# Altium integrated library VECTOR Di-gi SMTs.IntLib: 45 symbols
Pins are listed as number, name and electrical type; pins without a type are passive.

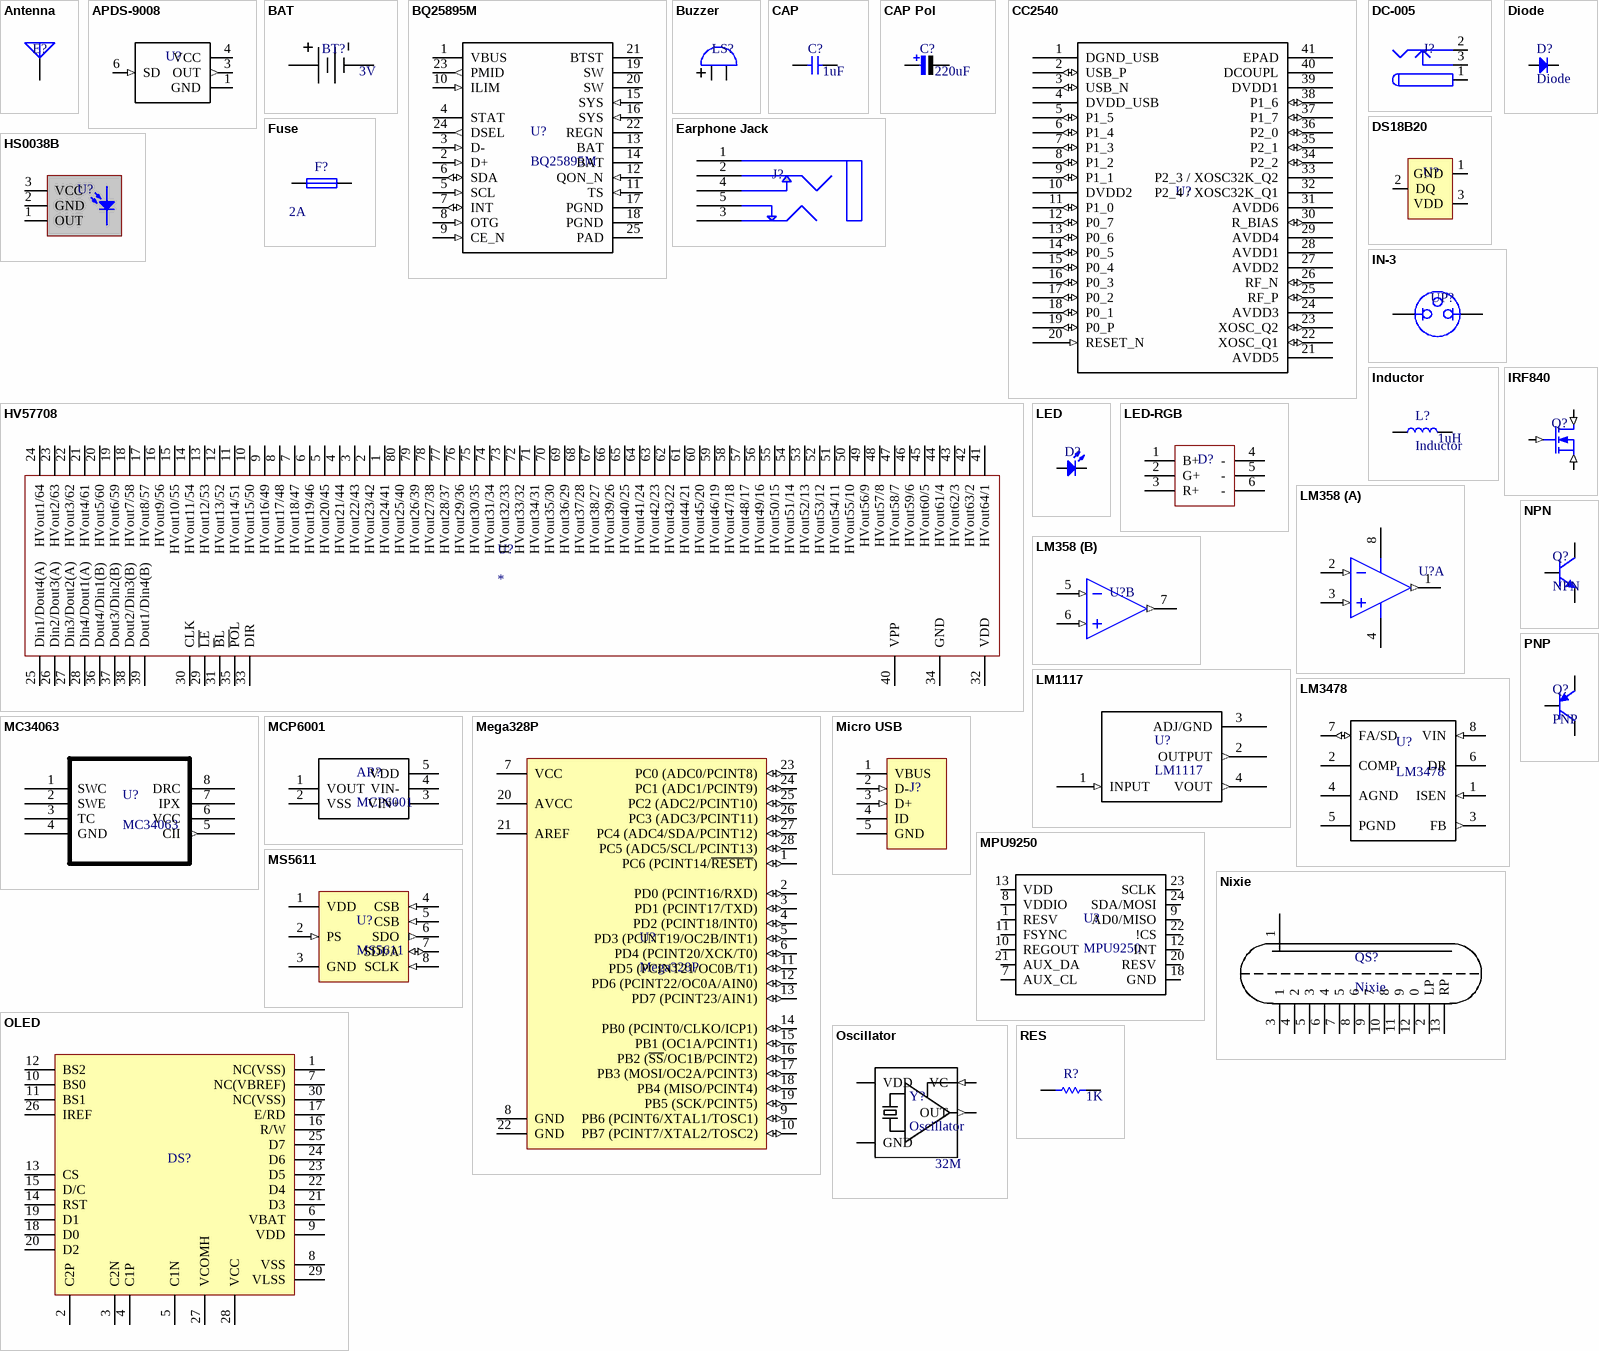
[diagram p0: symbols Antenna to RES]

## Antenna
designator E?
Antenna
footprint ISA
footprint A6150
footprint MIFA
pins: 1 A

## APDS-9008
designator U?
Ambient Light Sensor
footprint chipLED-6P
pins: 1 GND, 3 OUT (out), 4 VCC (power), 6 SD (in)

## BAT
designator BT?  value 3V
Battery Bin
footprint CR1220
footprint AA
pins: 1 +, 2 -

## BQ25895M
designator U?
OTG Charger
footprint RTW0024H
pins: 1 VBUS (power), 2 D+ (in), 3 D- (in), 4 STAT (oc), 5 SCL (in), 6 SDA (io), 7 INT (io), 8 OTG (in), 9 CE_N (in), 10 ILIM (in), 11 TS (in), 12 QON_N (in), 13 BAT (power), 14 BAT (power), 15 SYS (in), 16 SYS (in), 17 PGND (power), 18 PGND (power), 19 SW (power), 20 SW (power), 21 BTST (power), 22 REGN (power), 23 PMID (out), 24 DSEL (out), 25 PAD (power)

## Buzzer
designator LS?
Magnetic Transducer Buzzer
footprint 420
pins: 1 A, 2 B

## CAP
designator C?  value 1uF
Capacitor
footprint 0402
footprint 0603
footprint 0805
footprint 1206
pins: 1, 2

## CAP Pol
designator C?  value 220uF
Capacitor
footprint 3528
footprint 6032
footprint 7343
footprint RB-S6
footprint RB-S8
footprint RB-S10
footprint 3216
footprint Rad
pins: 1, 2

## CC2540
designator U?
Bluetooth MCU
footprint VQFN40
pins: 1 DGND_USB (power), 2 USB_P (io), 3 USB_N (io), 4 DVDD_USB (power), 5 P1_5 (io), 6 P1_4 (io), 7 P1_3 (io), 8 P1_2 (io), 9 P1_1 (io), 10 DVDD2 (power), 11 P1_0 (io), 12 P0_7 (io), 13 P0_6 (io), 14 P0_5 (io), 15 P0_4 (io), 16 P0_3 (io), 17 P0_2 (io), 18 P0_1 (io), 19 P0_P (io), 20 RESET_N (in), 21 AVDD5 (power), 22 XOSC_Q1 (io), 23 XOSC_Q2 (io), 24 AVDD3 (power), 25 RF_P (io), 26 RF_N (io), 27 AVDD2 (power), 28 AVDD1 (power), 29 AVDD4 (power), 30 R_BIAS (io), 31 AVDD6 (power), 32 P2_4 / XOSC32K_Q1, 33 P2_3 / XOSC32K_Q2, 34 P2_2 (io), 35 P2_1 (io), 36 P2_0 (io), 37 P1_7 (io), 38 P1_6 (io), 39 DVDD1 (power), 40 DCOUPL (power), 41 EPAD (power)

## DC-005
designator J?  (value not drawn)
Low Voltage Power Supply Connector
footprint KLD-0202
pins: 1 (power), 2 (power), 3 (power)

## Diode
designator D?
footprint Diode-SOC
footprint DIODE-SMA
footprint DIODE-SMC
footprint Diode-SMB
pins: 1 A, 2 K

## DS18B20
designator U?
Temp Sensor
footprint TO-226A
pins: 1 GND, 2 DQ, 3 VDD

## Earphone Jack
designator J?
3.5mm Vertical Threaded Right Angle Stereo Jack
footprint PJ306
pins: 1 COM, 2 L, 3 R, 4 L1, 5 R1

## Fuse
designator F?  value 2A
Fuse
footprint 1812
pins: 1, 2

## HS0038B
designator U?
PCM receiver
footprint TO-92A
pins: 1 OUT, 2 GND, 3 VCC

## HV57708
designator U?
HV Shift Registers
footprint PQF80
pins: 1 HVout24/41, 2 HVout23/42, 3 HVout22/43, 4 HVout21/44, 5 HVout20/45, 6 HVout19/46, 7 HVout18/47, 8 HVout17/48, 9 HVout16/49, 10 HVout15/50, 11 HVout14/51, 12 HVout13/52, 13 HVout12/53, 14 HVout11/54, 15 HVout10/55, 16 HVout9/56, 17 HVout8/57, 18 HVout7/58, 19 HVout6/59, 20 HVout5/60, 21 HVout4/61, 22 HVout3/62, 23 HVout2/63, 24 HVout1/64, 25 Din1/Dout4(A), 26 Din2/Dout3(A), 27 Din3/Dout2(A), 28 Din4/Dout1(A), 29 ~{LE}, 30 CLK, 31 ~{B}L, 32 VDD, 33 DIR, 34 GND, 35 ~{PO}L, 36 Dout4/Din1(B), 37 Dout3/Din2(B), 38 Dout2/Din3(B), 39 Dout1/Din4(B), 40 VPP, 41 HVout64/1, 42 HVout63/2, 43 HVout62/3, 44 HVout61/4, 45 HVout60/5, 46 HVout59/6, 47 HVout58/7, 48 HVout57/8, 49 HVout56/9, 50 HVout55/10, 51 HVout54/11, 52 HVout53/12, 53 HVout52/13, 54 HVout51/14, 55 HVout50/15, 56 HVout49/16, 57 HVout48/17, 58 HVout47/18, 59 HVout46/19, 60 HVout45/20, 61 HVout44/21, 62 HVout43/22, 63 HVout42/23, 64 HVout41/24, 65 HVout40/25, 66 HVout39/26, 67 HVout38/27, 68 HVout37/28, 69 HVout36/29, 70 HVout35/30, 71 HVout34/31, 72 HVout33/32, 73 HVout32/33, 74 HVout31/34, 75 HVout30/35, 76 HVout29/36, 77 HVout28/37, 78 HVout27/38, 79 HVout26/39, 80 HVout25/40

## IN-3
designator UP?
Neon
footprint Rad
pins: 1, 2

## Inductor
designator L?  value 1uH
footprint 0402
footprint 0420
footprint 0603
footprint 0730
footprint 0805
footprint 1040
footprint 1210
pins: 1, 2

## IRF840
designator Q?
MOSFET
footprint TO-263
pins: 1 D (in), 2 G (in), 3 S (in)

## LED
designator D?
LED
footprint 0805
pins: 1 A, 2 K

## LED-RGB
designator D?
RGB LED
footprint chipLED-6P
pins: 1 B+, 2 G+, 3 R+, 4 -, 5 -, 6 -

## LM358
designator U?
Op AMP
footprint SOIC-8
footprint DIP8
part A pins: 1 OUTA (out), 2 INA- (in), 3 INA+ (in), 4 GND (power), 8 VCC (power)
part B pins: 5 INB- (in), 6 INB+ (in), 7 OUTB (out)

## LM1117
designator U?
LDO
footprint SOT22-3
pins: 1 INPUT (in), 2 OUTPUT (out), 3 ADJ/GND, 4 VOUT (out)

## LM3478
designator U?
Dc-DC Converter
footprint SOIC-8
pins: 1 ISEN (in), 2 COMP, 3 FB (out), 4 AGND (power), 5 PGND (power), 6 DR, 7 FA/SD (io), 8 VIN (in)

## MC34063
designator U?
Conv DC-DC
footprint SOIC-8
pins: 1 SWC, 2 SWE, 3 TC, 4 GND (power), 5 CII (out), 6 VCC (power), 7 IPX, 8 DRC

## MCP6001
designator AR?
Op Amp
footprint SOT23-5
pins: 1 VOUT, 2 VSS, 3 VIN+, 4 VIN-, 5 VDD

## Mega328P
designator U?
Arduino MCU
footprint DIP28
pins: 1 PC6 (PCINT14/~{RESET}) (io), 2 PD0 (PCINT16/RXD) (io), 3 PD1 (PCINT17/TXD) (io), 4 PD2 (PCINT18/INT0) (io), 5 PD3 (PCINT19/OC2B/INT1) (io), 6 PD4 (PCINT20/XCK/T0) (io), 7 VCC (power), 8 GND (power), 9 PB6 (PCINT6/XTAL1/TOSC1) (io), 10 PB7 (PCINT7/XTAL2/TOSC2) (io), 11 PD5 (PCINT21/OC0B/T1) (io), 12 PD6 (PCINT22/OC0A/AIN0) (io), 13 PD7 (PCINT23/AIN1) (io), 14 PB0 (PCINT0/CLKO/ICP1) (io), 15 PB1 (OC1A/PCINT1) (io), 16 PB2 (~{SS}/OC1B/PCINT2) (io), 17 PB3 (MOSI/OC2A/PCINT3) (io), 18 PB4 (MISO/PCINT4) (io), 19 PB5 (SCK/PCINT5) (io), 20 AVCC (power), 21 AREF (power), 22 GND (power), 23 PC0 (ADC0/PCINT8) (io), 24 PC1 (ADC1/PCINT9) (io), 25 PC2 (ADC2/PCINT10) (io), 26 PC3 (ADC3/PCINT11) (io), 27 PC4 (ADC4/SDA/PCINT12) (io), 28 PC5 (ADC5/SCL/PCINT13) (io)

## Micro USB
designator J?
Micro USB
footprint Micro Type-B
pins: 1 VBUS (power) "Power", 2 D- (in) "-DATA", 3 D+ (in) "+DATA", 4 ID "Shield", 5 GND (power) "Ground"

## MPU9250
designator U?
Gyroscope/Accelerometer/Magnetometer Sensor
footprint QFN24
pins: 1 RESV (io), 7 AUX_CL (io), 8 VDDIO (io), 9 AD0/MISO (io), 10 REGOUT (io), 11 FSYNC (io), 12 INT (io), 13 VDD (io), 18 GND (io), 20 RESV (io), 21 AUX_DA (io), 22 !CS (io), 23 SCLK (io), 24 SDA/MOSI (io)

## MS5611
designator U?
Pressure Sensor
footprint QFN8
pins: 1 VDD (power) "Power", 2 PS (in) "-DATA", 3 GND (power) "+DATA", 4 CSB (in) "Ground", 5 CSB (in) "Ground", 6 SDO (out) "Ground", 7 SDI/A (io) "Ground", 8 SCLK (in) "Ground"

## Nixie
designator QS?
Nixie Tube
footprint IN14
pins: 1 Anode , 2 LP, 3 1, 4 2, 5 3, 6 4, 7 5, 8 6, 9 7, 10 8, 11 9, 12 0, 13 RP

## NPN
designator Q?
NPN Bipolar Transistor
footprint SOT23
pins: 1 E, 2 B, 3 C

## OLED
designator DS?
0.96inch 12864 Screen
footprint COG
pins: 1 NC(VSS), 2 C2P, 3 C2N, 4 C1P, 5 C1N, 6 VBAT, 7 NC(VBREF), 8 VSS, 9 VDD, 10 BS0, 11 BS1, 12 BS2, 13 CS, 14 RST, 15 D/C, 16 R/W, 17 E/RD, 18 D0, 19 D1, 20 D2, 21 D3, 22 D4, 23 D5, 24 D6, 25 D7, 26 IREF, 27 VCOMH, 28 VCC, 29 VLSS, 30 NC(VSS)

## Oscillator
designator Y?  value 32M
Crystal Oscillator
footprint ASFL1
footprint ASVTX-H08
pins: 1 VC (in), 2 GND (power), 3 OUT (out), 4 VDD (power)

## PNP
designator Q?
PNP Bipolar Transistor
footprint SOT23
pins: 1 C, 2 B, 3 E

## RES
designator R?  value 1K
Resistor
footprint 0402
footprint 0603
footprint 0805
pins: 1, 2

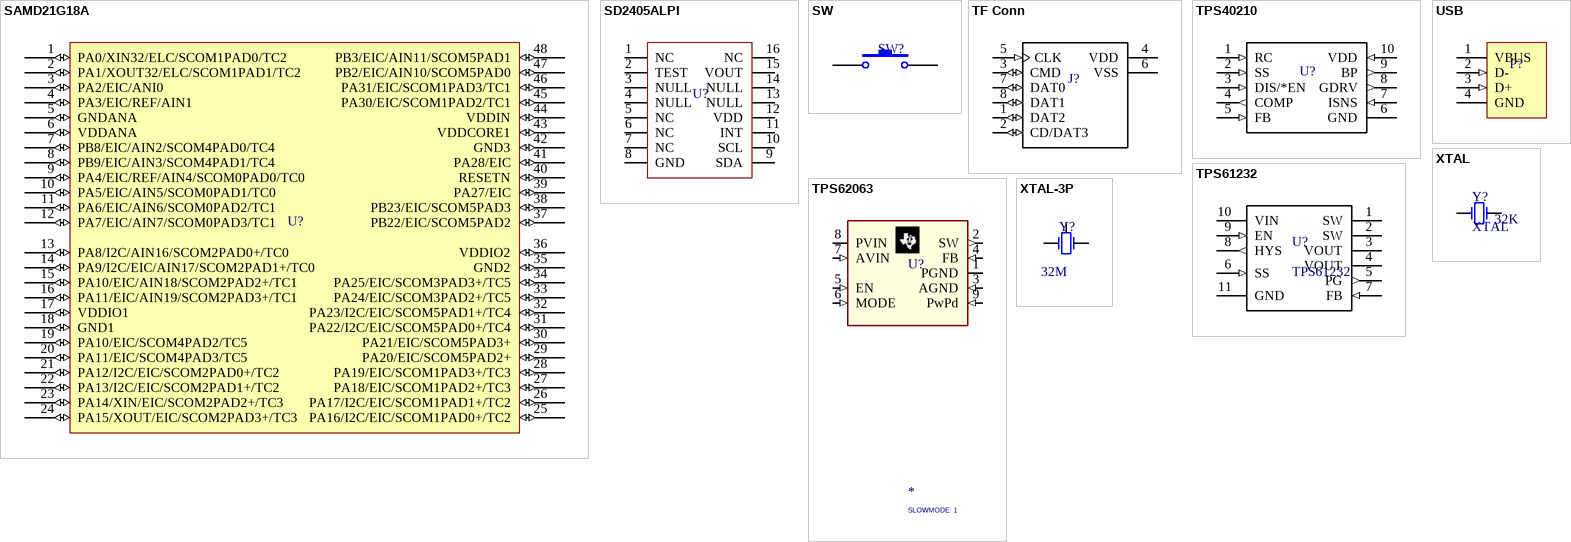
[diagram p1: symbols SAMD21G18A to XTAL-3P]

## SAMD21G18A
designator U?
Arduino MCU; Value: *
footprint QFN48
pins: 1 PA0/XIN32/ELC/SCOM1PAD0/TC2 (io), 2 PA1/XOUT32/ELC/SCOM1PAD1/TC2 (io), 3 PA2/EIC/ANI0 (io), 4 PA3/EIC/REF/AIN1 (io), 5 GNDANA (io), 6 VDDANA (io), 7 PB8/EIC/AIN2/SCOM4PAD0/TC4 (io), 8 PB9/EIC/AIN3/SCOM4PAD1/TC4 (io), 9 PA4/EIC/REF/AIN4/SCOM0PAD0/TC0 (io), 10 PA5/EIC/AIN5/SCOM0PAD1/TC0 (io), 11 PA6/EIC/AIN6/SCOM0PAD2/TC1 (io), 12 PA7/EIC/AIN7/SCOM0PAD3/TC1 (io), 13 PA8/I2C/AIN16/SCOM2PAD0+/TC0 (io), 14 PA9/I2C/EIC/AIN17/SCOM2PAD1+/TC0 (io), 15 PA10/EIC/AIN18/SCOM2PAD2+/TC1 (io), 16 PA11/EIC/AIN19/SCOM2PAD3+/TC1 (io), 17 VDDIO1 (io), 18 GND1 (io), 19 PA10/EIC/SCOM4PAD2/TC5 (io), 20 PA11/EIC/SCOM4PAD3/TC5 (io), 21 PA12/I2C/EIC/SCOM2PAD0+/TC2 (io), 22 PA13/I2C/EIC/SCOM2PAD1+/TC2 (io), 23 PA14/XIN/EIC/SCOM2PAD2+/TC3 (io), 24 PA15/XOUT/EIC/SCOM2PAD3+/TC3 (io), 25 PA16/I2C/EIC/SCOM1PAD0+/TC2 (io), 26 PA17/I2C/EIC/SCOM1PAD1+/TC2 (io), 27 PA18/EIC/SCOM1PAD2+/TC3 (io), 28 PA19/EIC/SCOM1PAD3+/TC3 (io), 29 PA20/EIC/SCOM5PAD2+ (io), 30 PA21/EIC/SCOM5PAD3+ (io), 31 PA22/I2C/EIC/SCOM5PAD0+/TC4 (io), 32 PA23/I2C/EIC/SCOM5PAD1+/TC4 (io), 33 PA24/EIC/SCOM3PAD2+/TC5 (io), 34 PA25/EIC/SCOM3PAD3+/TC5 (io), 35 GND2 (io), 36 VDDIO2 (io), 37 PB22/EIC/SCOM5PAD2 (io), 38 PB23/EIC/SCOM5PAD3 (io), 39 PA27/EIC (io), 40 RESETN (io), 41 PA28/EIC (io), 42 GND3 (io), 43 VDDCORE1 (io), 44 VDDIN (io), 45 PA30/EIC/SCOM1PAD2/TC1 (io), 46 PA31/EIC/SCOM1PAD3/TC1 (io), 47 PB2/EIC/AIN10/SCOM5PAD0 (io), 48 PB3/EIC/AIN11/SCOM5PAD1 (io)

## SD2405ALPI
designator U?
RTC
footprint DIP16
pins: 1 NC, 2 TEST, 3 NULL, 4 NULL, 5 NC, 6 NC, 7 NC, 8 GND, 9 SDA, 10 SCL, 11 INT, 12 VDD, 13 NULL, 14 NULL, 15 VOUT, 16 NC

## SW
designator SW?
Switch
footprint SW-PB2
footprint SW-PB4
pins: 1, 2

## TF Conn
designator J?
8P MicroSD Connector
footprint 47219-2001
footprint 502570-0893
pins: 1 DAT2 (io), 2 CD/DAT3 (io), 3 CMD (io), 4 VDD (power), 5 CLK (in), 6 VSS (power), 7 DAT0 (io), 8 DAT1 (io)

## TPS40210
designator U?  (value not drawn)
DC-DC Converter
footprint DGQ10
pins: 1 RC (in), 2 SS (in), 3 DIS/*EN (in), 4 COMP (out), 5 FB (in), 6 GND (power), 7 ISNS (in), 8 GDRV (out), 9 BP (out), 10 VDD (in)

## TPS61232
designator U?
DC-DC Converter
footprint DRC0010G
pins: 1 SW (power), 2 SW (power), 3 VOUT (power), 4 VOUT (power), 5 PG (out), 6 SS (in), 7 FB (in), 8 HYS (out), 9 EN (in), 10 VIN (power), 11 GND (power)

## TPS62063
designator U?  SLOWMODE: 1
DC-DC Converter; PSpiceTemplate: X^@REFDES %PwPd %AVIN %EN %FB %SW %PGND %MODE %AGND %PVIN @MODEL PARAMS: ?SLOWMODE|SLOWMODE=@SLOWMODE||SLOWMODE=1|
footprint DSG08
simulation model TPS62063_TRANS ($ENCRYPTED_LIB)
pins: 1 PGND (power), 2 SW (out), 3 AGND (in), 4 FB (in), 5 EN (in), 6 MODE (in), 7 AVIN (in), 8 PVIN (power), 9 PwPd (in)

## USB
designator P?
USB Port
footprint USB2.5-2H4B
pins: 1 VBUS (power) "Power", 2 D- (in) "-DATA", 3 D+ (in) "+DATA", 4 GND (power) "Ground"

## XTAL
designator Y?  value 32K
Crystal Oscillator
footprint ABS07
footprint ABS10
pins: 1 OSC1, 2 OSC2

## XTAL-3P
designator Y?  value 32M
Crystal Oscillator
footprint X-CPX20
pins: 1 OSC1, 2 GND, 3 OSC2